# Altium footprint library MergenElektronik_Connectors_TerminalConnectors_BarrierBlocks.PcbLib: 3 footprints
Each footprint in its own frame and in the unit in brackets; x right, y up, seen from the top. Pads: shape width x height; smd on the part's side, far side on the other; paste and mask are expansions set on the pad; w line width, h text height; cw(c..) or ccw(c..) is an arc to the next point about the centre after c.
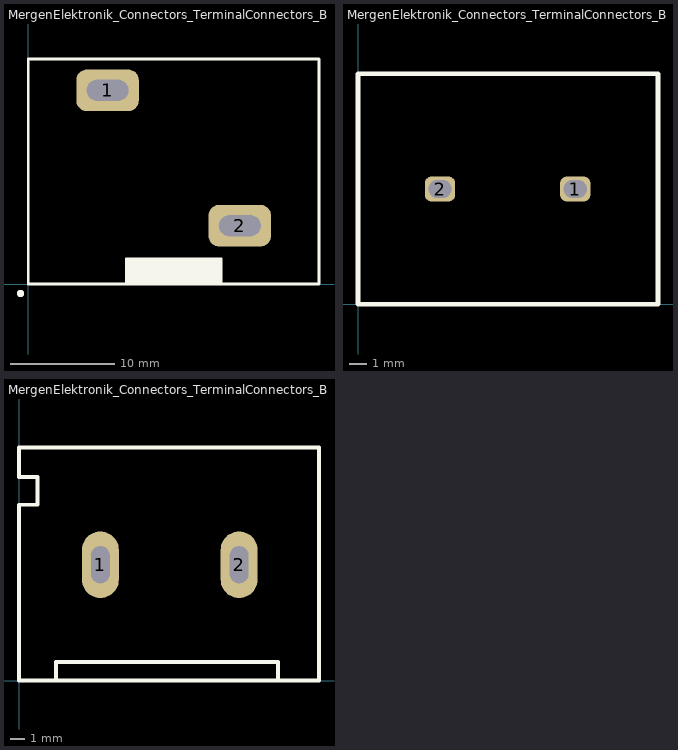
[diagram p0: the footprints below, top view; thin cyan lines are the x and y axes]

## MergenElektronik_Connectors_TerminalConnectors_BarrierBlocks_0389690002 [mm] "0389690002"
pads (2):
  rrect50% 6x4 hole 2 slot 4 at 0 deg: 1(7.6,18.6) 2(20.3,5.6)
Top Overlay:
  region: 18.5,0 18.5,2.4 9.4,2.4 9.4,0
  lines w0.254: 9.4,0 9.4,2.4 18.5,2.4 18.5,0 ; 0,0 27.9,0 27.9,21.6 0,21.6 0,0
  lines w0.4: -0.608,-0.853 ccw(c-0.75,-0.9) -0.6,-0.9
3D body: height 22.61, standoff -4.06, extent 0.13,0.11 28.07,21.7

## MergenElektronik_Connectors_TerminalConnectors_BarrierBlocks_DFTKaifengKF-25 [mm] "DFT Kaifeng KF-25"
pads (2):
  rrect50% 1.7x1.4 hole 1 slot 1.3 at 0 deg: 1(12.24,6.5) 2(4.62,6.5)
Top Overlay:
  lines w0.254: 0,0 0,13 16.9,13 16.9,1.3 16.9,0 0,0
3D body: height 14, standoff -5.5, extent -0.04,-0.3 16.9,13.2

## MergenElektronik_Connectors_TerminalConnectors_BarrierBlocks_NC6-P108-02 [mil] "NC6-P108-02 - 1x2"
pads (2):
  oval 100x180 hole 50 slot 100 at 90 deg: 1(220,313) 2(595,313)
Top Overlay:
  lines w10: 100,0 100,50 700,50 700,0 ; 0,0 811,0 811,630 0,630 0,550 50,550 50,475 0,475 0,0
3D body: height 755.6, standoff -169.6, extent -7.87,-7.88 820.87,641.73